# Altium schematic symbol library LCD2004.SchLib: 1 symbol
Pins are listed as number, name and electrical type; pins without a type are passive.

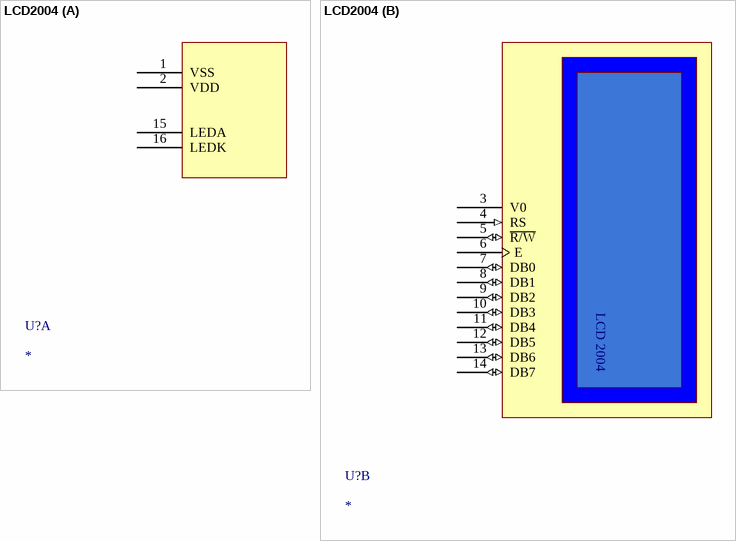
[diagram p0: symbol LCD2004]

## LCD2004
designator U?
Manufacturer: AZ Display; Display Format: 20 x 4; Character Format: 5 x 8 Dots; Display Type: STN - Super-Twisted Nematic, TN - Twisted Nematic; Display Mode: Transmissive; Character Size: 4.75mm H x 2.95mm W; Outline L x W x H: 98.00mm x 60.00mm x 14.00mm; Viewing Area: 76.00mm L x 25.20mm W; Backlight: LED; Voltage - Supply: 2.7V ~ 5.5V; Dot Size: 0.55mm W x 0.55mm H; Package: Box; Operating Temperature: -20°C ~ 70°C; ComponentLink1Description: Datasheet; ComponentLink1URL: https://www.digikey.com/en/products/detail/az-displays/ACM2004G-NLW-BTW/13426757
footprint PCBComponent_1
part A pins: 1 VSS, 2 VDD, 15 LEDA, 16 LEDK
part B pins: 3 V0, 4 RS (in), 5 ~{R/W} (io), 6 E, 7 DB0 (io), 8 DB1 (io), 9 DB2 (io), 10 DB3 (io), 11 DB4 (io), 12 DB5 (io), 13 DB6 (io), 14 DB7 (io)
part B text: LCD 2004